# Altium schematic symbol library SCH.SCHLIB: 113 symbols
Pins are listed as number, name and electrical type; pins without a type are passive.

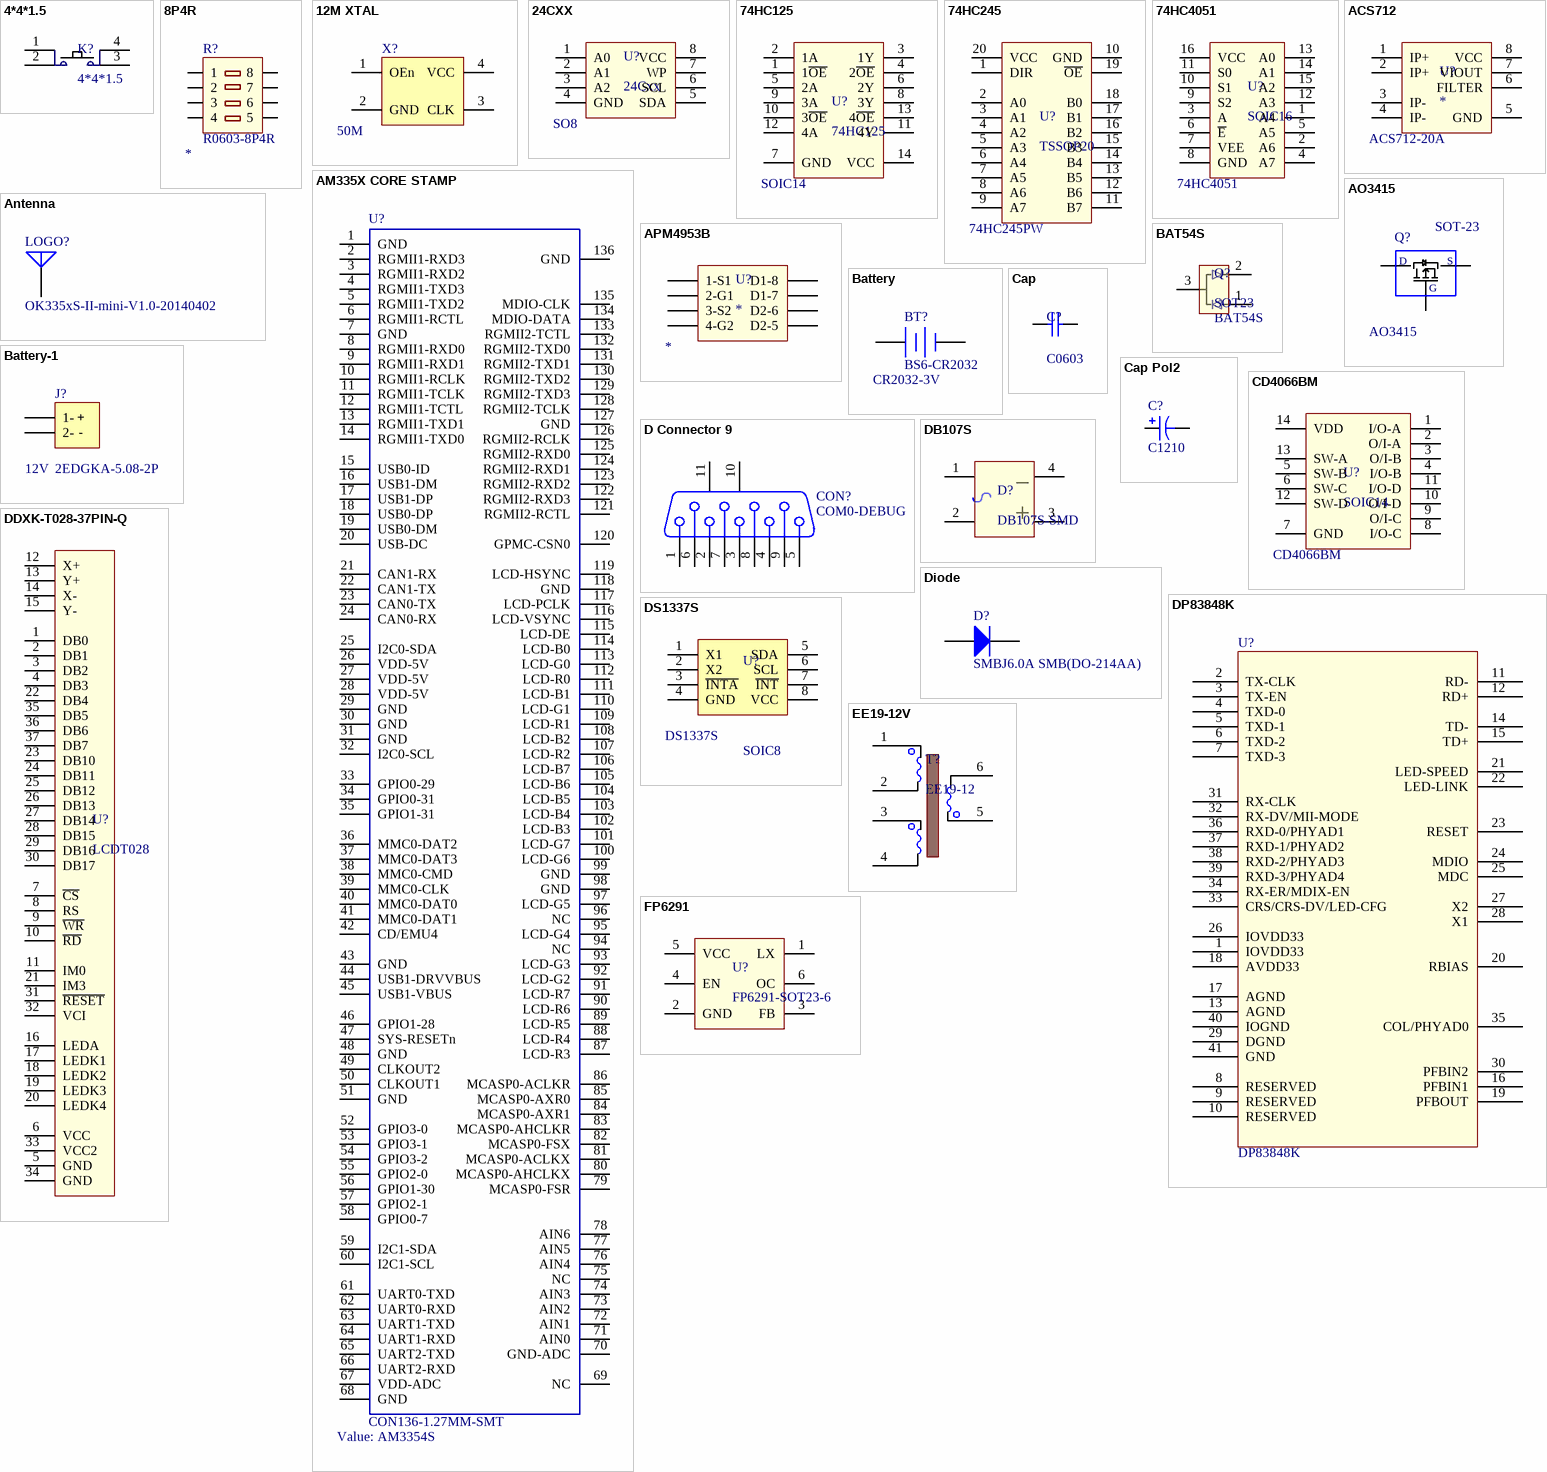
[diagram p0: symbols 4*4*1.5 to FP6291]

## 4*4*1.5
designator K?
footprint 4*4*1.5
pins: 1, 2, 3, 4

## 8P4R
designator R?, comment R0603-8P4R
Value: *
footprint R0603-8P4R
pins: 1, 2, 3, 4, 5, 6, 7, 8

## 12M XTAL
designator X?, comment 50M
footprint Y7050
pins: 1 OEn, 2 GND, 3 CLK, 4 VCC

## 24CXX
designator U?, comment 24Cxx  value SO8
footprint SOIC8 (SOIC, 8-Leads, Body 4.9x3.9mm, Pitch 1.27mm, IPC Medium Density)
pins: 1 A0, 2 A1, 3 A2, 4 GND, 5 SDA, 6 SCL, 7 WP, 8 VCC

## 74HC125
designator U?  value SOIC14
footprint SOIC14
pins: 1 1~{OE}, 2 1A, 3 1Y, 4 2~{OE}, 5 2A, 6 2Y, 7 GND, 8 3Y, 9 3A, 10 3~{OE}, 11 4Y, 12 4A, 13 4~{OE}, 14 VCC

## 74HC245
designator U?, comment TSSOP20  value 74HC245PW
footprint TSSOP20
pins: 1 DIR, 2 A0, 3 A1, 4 A2, 5 A3, 6 A4, 7 A5, 8 A6, 9 A7, 10 GND, 11 B7, 12 B6, 13 B5, 14 B4, 15 B3, 16 B2, 17 B1, 18 B0, 19 ~{OE}, 20 VCC

## 74HC4051
designator U?, comment SOIC16  value 74HC4051
footprint SO-G16
pins: 1 A4, 2 A6, 3 A, 4 A7, 5 A5, 6 ~{E}, 7 VEE, 8 GND, 9 S2, 10 S1, 11 S0, 12 A3, 13 A0, 14 A1, 15 A2, 16 VCC

## ACS712
designator U?  value ACS712-20A
footprint SOIC8_N (SOIC, 8-Leads, Body 4.9x3.9mm, Pitch 1.27mm, IPC Medium Density)
pins: 1 IP+, 2 IP+, 3 IP-, 4 IP-, 5 GND, 6 FILTER, 7 VIOUT, 8 VCC

## AM335X CORE STAMP
designator U?, comment CON136-1.27MM-SMT  value AM3354S
footprint FET335S_V1.1
pins: 1 GND, 2 RGMII1-RXD3, 3 RGMII1-RXD2, 4 RGMII1-TXD3, 5 RGMII1-TXD2, 6 RGMII1-RCTL, 7 GND, 8 RGMII1-RXD0, 9 RGMII1-RXD1, 10 RGMII1-RCLK, 11 RGMII1-TCLK, 12 RGMII1-TCTL, 13 RGMII1-TXD1, 14 RGMII1-TXD0, 15 USB0-ID, 16 USB1-DM, 17 USB1-DP, 18 USB0-DP, 19 USB0-DM, 20 USB-DC, 21 CAN1-RX, 22 CAN1-TX, 23 CAN0-TX, 24 CAN0-RX, 25 I2C0-SDA, 26 VDD-5V, 27 VDD-5V, 28 VDD-5V, 29 GND, 30 GND, 31 GND, 32 I2C0-SCL, 33 GPIO0-29, 34 GPIO0-31, 35 GPIO1-31, 36 MMC0-DAT2, 37 MMC0-DAT3, 38 MMC0-CMD, 39 MMC0-CLK, 40 MMC0-DAT0, 41 MMC0-DAT1, 42 CD/EMU4, 43 GND, 44 USB1-DRVVBUS, 45 USB1-VBUS, 46 GPIO1-28, 47 SYS-RESETn, 48 GND, 49 CLKOUT2, 50 CLKOUT1, 51 GND, 52 GPIO3-0, 53 GPIO3-1, 54 GPIO3-2, 55 GPIO2-0, 56 GPIO1-30, 57 GPIO2-1, 58 GPIO0-7, 59 I2C1-SDA, 60 I2C1-SCL, 61 UART0-TXD, 62 UART0-RXD, 63 UART1-TXD, 64 UART1-RXD, 65 UART2-TXD, 66 UART2-RXD, 67 VDD-ADC, 68 GND, 69 NC, 70 GND-ADC, 71 AIN0, 72 AIN1, 73 AIN2, 74 AIN3, 75 NC, 76 AIN4, 77 AIN5, 78 AIN6, 79 MCASP0-FSR, 80 MCASP0-AHCLKX, 81 MCASP0-ACLKX, 82 MCASP0-FSX, 83 MCASP0-AHCLKR, 84 MCASP0-AXR1, 85 MCASP0-AXR0, 86 MCASP0-ACLKR, 87 LCD-R3, 88 LCD-R4, 89 LCD-R5, 90 LCD-R6, 91 LCD-R7, 92 LCD-G2, 93 LCD-G3, 94 NC, 95 LCD-G4, 96 NC, 97 LCD-G5, 98 GND, 99 GND, 100 LCD-G6, 101 LCD-G7, 102 LCD-B3, 103 LCD-B4, 104 LCD-B5, 105 LCD-B6, 106 LCD-B7, 107 LCD-R2, 108 LCD-B2, 109 LCD-R1, 110 LCD-G1, 111 LCD-B1, 112 LCD-R0, 113 LCD-G0, 114 LCD-B0, 115 LCD-DE, 116 LCD-VSYNC, 117 LCD-PCLK, 118 GND, 119 LCD-HSYNC, 120 GPMC-CSN0, 121 RGMII2-RCTL, 122 RGMII2-RXD3, 123 RGMII2-RXD2, 124 RGMII2-RXD1, 125 RGMII2-RXD0, 126 RGMII2-RCLK, 127 GND, 128 RGMII2-TCLK, 129 RGMII2-TXD3, 130 RGMII2-TXD2, 131 RGMII2-TXD1, 132 RGMII2-TXD0, 133 RGMII2-TCTL, 134 MDIO-DATA, 135 MDIO-CLK, 136 GND

## Antenna
designator LOGO?, comment OK335xS-II-mini-V1.0-20140402
Generic Antenna; Published: 24-Mar-1999; LatestRevisionDate: 17-Jul-2002; LatestRevisionNote: Re-released for DXP Platform.; PackageReference: PIN1; Publisher: Altium Limited
footprint LOGO
footprint LOGO
pins: 1 A

## AO3415
designator Q?, comment SOT-23  value AO3415
footprint SOT23
pins: 1 G, 2 S, 3 D

## APM4953B
designator U?
Value: *
footprint SOIC8_N (SOIC, 8-Leads, Body 4.9x3.9mm, Pitch 1.27mm, IPC Medium Density)
pins: 1 1-S1, 2 2-G1, 3 3-S2, 4 4-G2, 5 D2-5, 6 D2-6, 7 D1-7, 8 D1-8

## BAT54S
designator Q?, comment SOT23  value BAT54S
footprint SOT23
pins: 1, 2, 3

## Battery
designator BT?, comment BS6-CR2032  value CR2032-3V
Multicell Battery; Published: 24-Mar-1999; LatestRevisionDate: 17-Jul-2002; LatestRevisionNote: Re-released for DXP Platform.; PackageReference: BAT-2; Publisher: Altium Limited
footprint BS6-CR2032
pins: 1 +, 2 -

## Battery-1
designator J?, comment 2EDGKA-5.08-2P  value 12V
Header, 2-Pin; LatestRevisionDate: 17-Jul-2002; LatestRevisionNote: Re-released for DXP Platform.; Publisher: Altium Limited
signal-integrity model Connector
footprint 2EDGKA-5.08-2P
pins: 1 1-＋, 2 2-－

## Cap
designator C?, comment C0603
Capacitor; Published: 8-Jun-2000; LatestRevisionDate: 17-Jul-2002; LatestRevisionNote: Re-released for DXP Platform.; PackageReference: RAD-0.3; Publisher: Altium Limited
footprint RAD-0.3 (Capacitor; 2 Leads)
footprint VP32-3.2 (Capacitor, Ceramic, Thru-Hole, Dipped Radial; Body 5.1 x 3.2 mm (WxT) Pin Spacing 2.54 mm (typ))
footprint VP45-3.2 (Capacitor, Ceramic, Thru-Hole, Dipped Radial; Body 7.8 x 3.2 mm (WxT) Pin Spacing 5.08 mm (typ))
simulation model CAP (Capacitor)
signal-integrity model Cap
footprint C0603_M1608 (Chip Capacitor, 2-Leads, Body 1.6x0.8mm, IPC Medium Density)
pins: 1, 2

## Cap Pol2
designator C?, comment C1210
Polarized Capacitor (Axial); Published: 8-Jun-2000; LatestRevisionDate: 17-Jul-2002; LatestRevisionNote: Re-released for DXP Platform.; PackageReference: POLAR0.8; Publisher: Altium Limited
footprint C1210_M3225
footprint CAPPA14.05-10.5x6.3 (Capacitor, Axial, Polarised; Body 10.5 x 6.3 mm (LxDia. max), Lead Dia. 0.6 mm (typ))
footprint CAPPA23.6-18.5x8.5 (Capacitor, Axial, Polarised; Body 18.5 x 8.5 mm (LxDia. max), Lead Dia. 0.8 mm (typ))
footprint CAPPA31.6-26.5x12.5 (Capacitor, Axial, Polarised; Body 26.5 x 12.5 mm (LxDia. max), Lead Dia. 0.8 mm (typ))
footprint CAPPA35.6-30.5x18.5 (Capacitor, Axial, Polarised; Body 30.5 x 18.5 mm (LxDia. max), Lead Dia. 0.8 mm (typ))
footprint CAPPA46.1-41x21.5 (Capacitor, Axial, Polarised; Body 41 x 21.5 mm (LxDia. max), Lead Dia. 0.8 mm (typ))
simulation model CAP (Capacitor)
signal-integrity model Cap Pol
pins: 1, 2
1 alternate drawing of the same symbol

## CD4066BM
designator U?, comment SOIC14  value CD4066BM
footprint SOIC14
pins: 1 I/O-A, 2 O/I-A, 3 O/I-B, 4 I/O-B, 5 SW-B, 6 SW-C, 7 GND, 8 I/O-C, 9 O/I-C, 10 O/I-D, 11 I/O-D, 12 SW-D, 13 SW-A, 14 VDD

## D Connector 9
designator CON?, comment COM0-DEBUG
Receptacle Assembly, 9 Position, Right Angle; PackageDocument: O; Positions: 9; Published: 15-Jun-2001; LatestRevisionDate: 17-Jul-2002; LatestRevisionNote: Re-released for DXP Platform.; DatasheetDocument: 1-Sep-1999; PackageReference: 788750; Publisher: Altium Limited; Orientation: Right Angle; Gender: Receptacle
footprint DSUB1.385-2H9-M (Connector; D Subminiature; 9 Position; Right Angle; Pitch 1.385 mm)
signal-integrity model Connector
pins: 1, 2, 3, 4, 5, 6, 7, 8, 9, 10 MH1, 11 MH2

## DB107S
designator D?, comment DB107S-SMD
footprint DB107-S
pins: 1, 2, 3, 4

## DDXK-T028-37PIN-Q
designator U?, comment LCDT028
pins: 1 DB0, 2 DB1, 3 DB2, 4 DB3, 5 GND, 6 VCC, 7 ~{CS}, 8 RS, 9 ~{WR}, 10 ~{RD}, 11 IM0, 12 X+, 13 Y+, 14 X-, 15 Y-, 16 LEDA, 17 LEDK1, 18 LEDK2, 19 LEDK3, 20 LEDK4, 21 IM3, 22 DB4, 23 DB10, 24 DB11, 25 DB12, 26 DB13, 27 DB14, 28 DB15, 29 DB16, 30 DB17, 31 ~{RESET}, 32 VCI, 33 VCC2, 34 GND, 35 DB5, 36 DB6, 37 DB7

## Diode
designator D?, comment SMBJ6.0A SMB(DO-214AA)
Default Diode; Published: 8-Jun-2000; LatestRevisionDate: 17-Jul-2002; LatestRevisionNote: Re-released for DXP Platform.; PackageDocument: Sep-1996; PackageReference: SMC; Publisher: Altium Limited; Code_JEDEC: DO-214-AB
footprint DIODE-SK34A
simulation model DIODE (Diode)
signal-integrity model Diode
pins: 1 A, 2 K

## DP83848K
designator U?
pins: 1 IOVDD33, 2 TX-CLK, 3 TX-EN, 4 TXD-0, 5 TXD-1, 6 TXD-2, 7 TXD-3, 8 RESERVED, 9 RESERVED, 10 RESERVED, 11 RD-, 12 RD+, 13 AGND, 14 TD-, 15 TD+, 16 PFBIN1, 17 AGND, 18 AVDD33, 19 PFBOUT, 20 RBIAS, 21 LED-SPEED, 22 LED-LINK, 23 RESET, 24 MDIO, 25 MDC, 26 IOVDD33, 27 X2, 28 X1, 29 DGND, 30 PFBIN2, 31 RX-CLK, 32 RX-DV/MII-MODE, 33 CRS/CRS-DV/LED-CFG, 34 RX-ER/MDIX-EN, 35 COL/PHYAD0, 36 RXD-0/PHYAD1, 37 RXD-1/PHYAD2, 38 RXD-2/PHYAD3, 39 RXD-3/PHYAD4, 40 IOGND, 41 GND

## DS1337S
designator U?, comment SOIC8  value DS1337S
Header, 4-Pin, Dual row; LatestRevisionDate: 17-Jul-2002; LatestRevisionNote: Re-released for DXP Platform.; Publisher: Altium Limited
footprint SOIC8_N (SOIC, 8-Leads, Body 4.9x3.9mm, Pitch 1.27mm, IPC Medium Density)
signal-integrity model Connector
footprint SOIC-8N
pins: 1 X1, 2 X2, 3 ~{INTA}, 4 GND, 5 SDA, 6 SCL, 7 ~{INT}, 8 VCC

## EE19-12V
designator T?, comment EE19-12
footprint 变压器-6S12-W
pins: 1, 2, 3, 4, 5, 6

## FP6291
designator U?, comment FP6291-SOT23-6
footprint SOT26
pins: 1 LX, 2 GND, 3 FB, 4 EN, 5 VCC, 6 OC

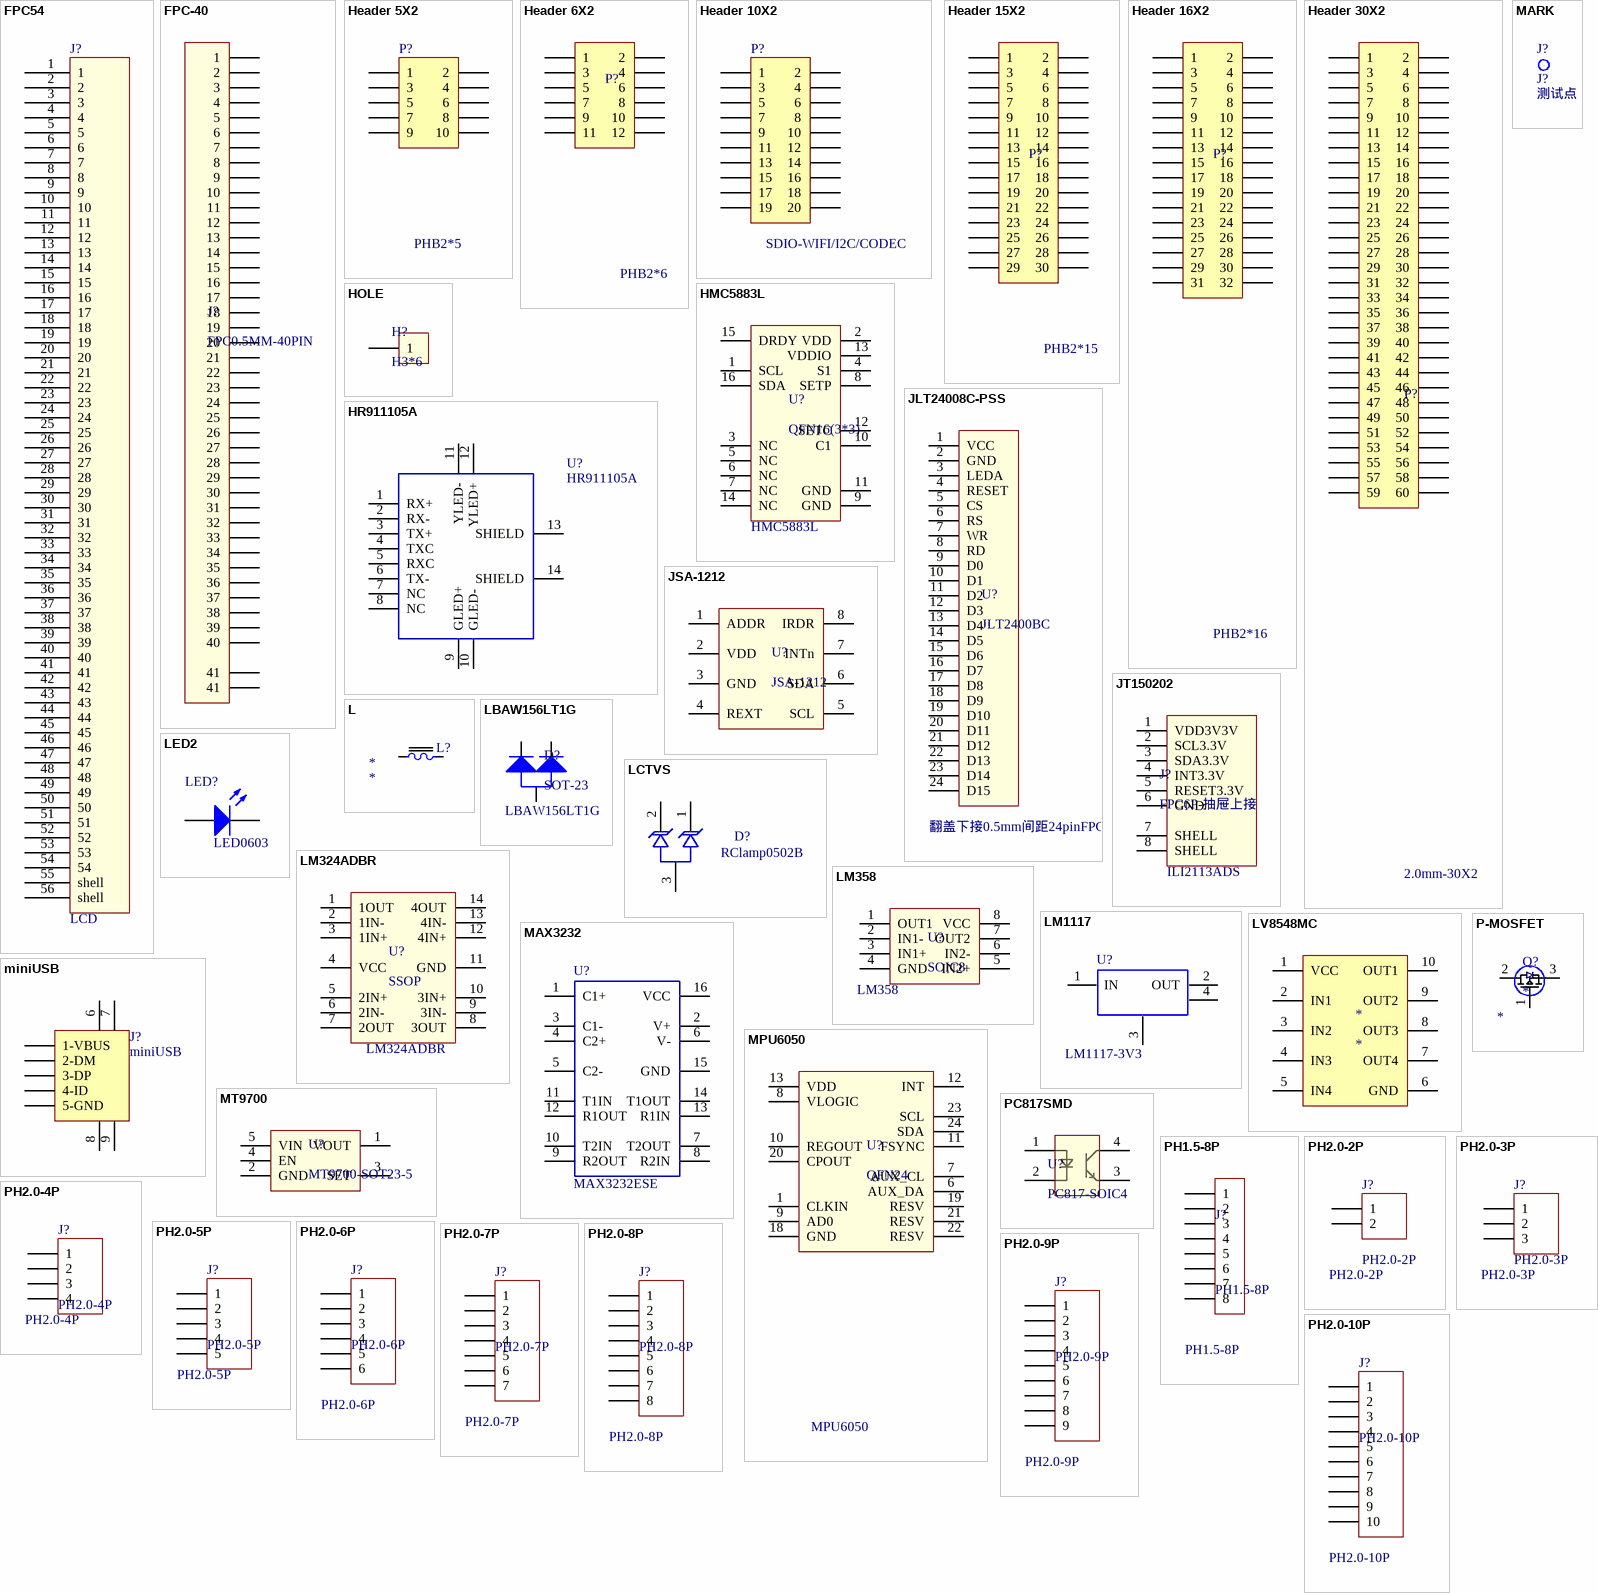
[diagram p1: symbols FPC54 to PH2.0-10P]

## FPC54
designator J?, comment LCD
footprint FPC54
pins: 1, 2, 3, 4, 5, 6, 7, 8, 9, 10, 11, 12, 13, 14, 15, 16, 17, 18, 19, 20, 21, 22, 23, 24, 25, 26, 27, 28, 29, 30, 31, 32, 33, 34, 35, 36, 37, 38, 39, 40, 41, 42, 43, 44, 45, 46, 47, 48, 49, 50, 51, 52, 53, 54, 55 shell, 56 shell

## FPC-40
designator J?, comment FPC0.5MM-40PIN
footprint FPC40_A
pins: 1, 2, 3, 4, 5, 6, 7, 8, 9, 10, 11, 12, 13, 14, 15, 16, 17, 18, 19, 20, 21, 22, 23, 24, 25, 26, 27, 28, 29, 30, 31, 32, 33, 34, 35, 36, 37, 38, 39, 40, 41, 41

## Header 5X2
designator P?, comment PHB2*5
Header, 10-Pin, Dual row; LatestRevisionDate: 17-Jul-2002; LatestRevisionNote: Re-released for DXP Platform.; Publisher: Altium Limited
footprint HDR2X10 (Connector; Header; 10x2 Position)
signal-integrity model Connector
footprint PHB2*5 (Footprint not found)
pins: 1, 2, 3, 4, 5, 6, 7, 8, 9, 10

## Header 6X2
designator P?, comment PHB2*6
Header, 10-Pin, Dual row; LatestRevisionDate: 17-Jul-2002; LatestRevisionNote: Re-released for DXP Platform.; Publisher: Altium Limited
footprint HDR2X10 (Connector; Header; 10x2 Position)
signal-integrity model Connector
footprint PHB2*6 (Footprint not found)
pins: 1, 2, 3, 4, 5, 6, 7, 8, 9, 10, 11, 12

## Header 10X2
designator P?, comment SDIO-WIFI/I2C/CODEC
Header, 10-Pin, Dual row; LatestRevisionDate: 17-Jul-2002; LatestRevisionNote: Re-released for DXP Platform.; Publisher: Altium Limited
footprint HDR2X10 (Connector; Header; 10x2 Position)
signal-integrity model Connector
footprint IDC20S
pins: 1, 2, 3, 4, 5, 6, 7, 8, 9, 10, 11, 12, 13, 14, 15, 16, 17, 18, 19, 20

## Header 15X2
designator P?, comment PHB2*15
Header, 10-Pin, Dual row; LatestRevisionDate: 17-Jul-2002; LatestRevisionNote: Re-released for DXP Platform.; Publisher: Altium Limited
footprint HDR2X10 (Connector; Header; 10x2 Position)
signal-integrity model Connector
footprint PHB2*15 (Footprint not found)
pins: 1, 2, 3, 4, 5, 6, 7, 8, 9, 10, 11, 12, 13, 14, 15, 16, 17, 18, 19, 20, 21, 22, 23, 24, 25, 26, 27, 28, 29, 30

## Header 16X2
designator P?, comment PHB2*16
Header, 30-Pin, Dual row; LatestRevisionDate: 17-Jul-2002; LatestRevisionNote: Re-released for DXP Platform.; Publisher: Altium Limited
footprint PHB2*16 (Footprint not found)
signal-integrity model Connector
pins: 1, 2, 3, 4, 5, 6, 7, 8, 9, 10, 11, 12, 13, 14, 15, 16, 17, 18, 19, 20, 21, 22, 23, 24, 25, 26, 27, 28, 29, 30, 31, 32

## Header 30X2
designator P?, comment 2.0mm-30X2
Header, 30-Pin, Dual row; LatestRevisionDate: 17-Jul-2002; LatestRevisionNote: Re-released for DXP Platform.; Publisher: Altium Limited
footprint IDC2.0mm-30X2
signal-integrity model Connector
pins: 1, 2, 3, 4, 5, 6, 7, 8, 9, 10, 11, 12, 13, 14, 15, 16, 17, 18, 19, 20, 21, 22, 23, 24, 25, 26, 27, 28, 29, 30, 31, 32, 33, 34, 35, 36, 37, 38, 39, 40, 41, 42, 43, 44, 45, 46, 47, 48, 49, 50, 51, 52, 53, 54, 55, 56, 57, 58, 59, 60

## HMC5883L
designator U?, comment QFN16(3*3)  value HMC5883L
footprint QFN16(3*3) (Footprint not found)
pins: 1 SCL, 2 VDD, 3 NC, 4 S1, 5 NC, 6 NC, 7 NC, 8 SETP, 9 GND, 10 C1, 11 GND, 12 SETC, 13 VDDIO, 14 NC, 15 DRDY, 16 SDA

## HOLE
designator H?, comment H3*6
footprint H3-6
pins: 1

## HR911105A
designator U?
footprint RJ-45A12
pins: 1 RX+, 2 RX-, 3 TX+, 4 TXC, 5 RXC, 6 TX-, 7 NC, 8 NC, 9 GLED+, 10 GLED-, 11 YLED-, 12 YLED+, 13 SHIELD, 14 SHIELD

## JLT24008C-PSS
designator U?, comment JLT2400BC  value 翻盖下接0.5mm间距24pinFPC座
footprint FPC24-A-0.5MM
pins: 1 VCC, 2 GND, 3 LEDA, 4 RESET, 5 CS, 6 RS, 7 WR, 8 RD, 9 D0, 10 D1, 11 D2, 12 D3, 13 D4, 14 D5, 15 D6, 16 D7, 17 D8, 18 D9, 19 D10, 20 D11, 21 D12, 22 D13, 23 D14, 24 D15

## JSA-1212
designator U?
footprint QFN8-JSA-1212 (Footprint not found)
pins: 1 ADDR, 2 VDD, 3 GND, 4 REXT, 5 SCL, 6 SDA, 7 INTn, 8 IRDR

## JT150202
designator J?, comment FPC6P-抽屉上接  value ILI2113ADS
footprint FPC6PIN-1MM
pins: 1 VDD3V3V, 2 SCL3.3V, 3 SDA3.3V, 4 INT3.3V, 5 RESET3.3V, 6 GND, 7 SHELL, 8 SHELL

## L
designator L?
BEADS; Value: *
footprint Model Name (Footprint not found)
pins: 1, 2

## LBAW156LT1G
designator D?, comment SOT-23  value LBAW156LT1G
footprint SOT23
pins: 1 K, 2 K, 3 A

## LCTVS
designator D?, comment value RClamp0502B  (hidden comment: SOT-523)
footprint SOT-523 (SOT23, 3-Leads, Body 1.7x1.8mm (max), Pitch 0.50mm, IPC Medium Density)
pins: 1, 2, 3

## LED2
designator LED?, comment LED0603
Typical RED, GREEN, YELLOW, AMBER GaAs LED; Published: 8-Jun-2000; LatestRevisionDate: 17-Jul-2002; LatestRevisionNote: Re-released for DXP Platform.; PackageDocument: Feb-2002; PackageReference: 3.2X1.6X1.1; Publisher: Altium Limited
footprint LED0603_M1608 (Molded Diode, 2-Leads, Body 1.9x0.8mm, IPC Medium Density)
simulation model LED2 (Diode)
pins: 1 A, 2 K

## LM324ADBR
designator U?, comment SSOP  value LM324ADBR
footprint TSSOP14
pins: 1 1OUT, 2 1IN-, 3 1IN+, 4 VCC, 5 2IN+, 6 2IN-, 7 2OUT, 8 3OUT, 9 3IN-, 10 3IN+, 11 GND, 12 4IN+, 13 4IN-, 14 4OUT

## LM358
designator U?, comment SOIC8  value LM358
footprint SOIC8_N (SOIC, 8-Leads, Body 4.9x3.9mm, Pitch 1.27mm, IPC Medium Density)
pins: 1 OUT1, 2 IN1-, 3 IN1+, 4 GND, 5 IN2+, 6 IN2-, 7 OUT2, 8 VCC

## LM1117
designator U?, comment value LM1117-3V3  (hidden comment: SOT223)
footprint LM1117 (SOT223)
pins: 1 IN, 2 OUT, 3 GND, 4

## LV8548MC
designator *
pins: 1 VCC, 2 IN1, 3 IN2, 4 IN3, 5 IN4, 6 GND, 7 OUT4, 8 OUT3, 9 OUT2, 10 OUT1

## MARK
designator J?, comment J?  value 测试点
footprint mark-1*1 (Footprint not found)
pins: 1

## MAX3232
designator U?, comment MAX3232ESE
footprint SOIC-16N
pins: 1 C1+, 2 V+, 3 C1-, 4 C2+, 5 C2-, 6 V-, 7 T2OUT, 8 R2IN, 9 R2OUT, 10 T2IN, 11 T1IN, 12 R1OUT, 13 R1IN, 14 T1OUT, 15 GND, 16 VCC

## miniUSB
designator J?
footprint MINIUSB
pins: 1 1-VBUS, 2 2-DM, 3 3-DP, 4 4-ID, 5 5-GND, 6, 7, 8, 9

## MPU6050
designator U?, comment QFN24  value MPU6050
footprint QFN24(MPU6050)
pins: 1 CLKIN, 6 AUX_DA, 7 AUX_CL, 8 VLOGIC, 9 AD0, 10 REGOUT, 11 FSYNC, 12 INT, 13 VDD, 18 GND, 19 RESV, 20 CPOUT, 21 RESV, 22 RESV, 23 SCL, 24 SDA

## MT9700
designator U?, comment MT9700-SOT23-5
footprint SOT23-5 (SOT23, 5-Leads, Body 3.1x3.0mm (max), Pitch 0.95mm, IPC Medium Density)
pins: 1 VOUT, 2 GND, 3 SET, 4 EN, 5 VIN

## P-MOSFET
designator Q?
Value: *
footprint TO-263
pins: 1, 2, 3

## PC817SMD
designator U?, comment PC817-SOIC4
footprint SOIC4
pins: 1, 2, 3, 4

## PH1.5-8P
designator J?
Header, 2-Pin; LatestRevisionDate: 17-Jul-2002; LatestRevisionNote: Re-released for DXP Platform.; Publisher: Altium Limited; Value: PH1.5-8P
signal-integrity model Connector
footprint PH1.5-8P
pins: 1, 2, 3, 4, 5, 6, 7, 8

## PH2.0-2P
designator J?
Header, 2-Pin; LatestRevisionDate: 17-Jul-2002; LatestRevisionNote: Re-released for DXP Platform.; Publisher: Altium Limited; Value: PH2.0-2P
signal-integrity model Connector
footprint PH2.0-2P (Footprint not found)
pins: 1, 2

## PH2.0-3P
designator J?
Header, 3-Pin; LatestRevisionDate: 17-Jul-2002; LatestRevisionNote: Re-released for DXP Platform.; Publisher: Altium Limited; Value: PH2.0-3P
signal-integrity model Connector
footprint PH2.0-3P (Footprint not found)
pins: 1, 2, 3

## PH2.0-4P
designator J?
Header, 4-Pin; LatestRevisionDate: 17-Jul-2002; LatestRevisionNote: Re-released for DXP Platform.; Publisher: Altium Limited; Value: PH2.0-4P
signal-integrity model Connector
footprint PH2.0-4P (Footprint not found)
pins: 1, 2, 3, 4

## PH2.0-5P
designator J?
Header, 5-Pin; LatestRevisionDate: 17-Jul-2002; LatestRevisionNote: Re-released for DXP Platform.; Publisher: Altium Limited; Value: PH2.0-5P
signal-integrity model Connector
footprint PH2.0-5P
pins: 1, 2, 3, 4, 5

## PH2.0-6P
designator J?
Header, 6-Pin; LatestRevisionDate: 17-Jul-2002; LatestRevisionNote: Re-released for DXP Platform.; Publisher: Altium Limited; Value: PH2.0-6P
signal-integrity model Connector
footprint PH2.0-6P (Footprint not found)
pins: 1, 2, 3, 4, 5, 6

## PH2.0-7P
designator J?
Header, 7-Pin; LatestRevisionDate: 17-Jul-2002; LatestRevisionNote: Re-released for DXP Platform.; Publisher: Altium Limited; Value: PH2.0-7P
signal-integrity model Connector
footprint PH2.0-7P
pins: 1, 2, 3, 4, 5, 6, 7

## PH2.0-8P
designator J?
Header, 6-Pin; LatestRevisionDate: 17-Jul-2002; LatestRevisionNote: Re-released for DXP Platform.; Publisher: Altium Limited; Value: PH2.0-8P
signal-integrity model Connector
footprint PH2.0-8P
pins: 1, 2, 3, 4, 5, 6, 7, 8

## PH2.0-9P
designator J?
Header, 9-Pin; LatestRevisionDate: 17-Jul-2002; LatestRevisionNote: Re-released for DXP Platform.; Publisher: Altium Limited; Value: PH2.0-9P
signal-integrity model Connector
footprint PH2.0-9P
pins: 1, 2, 3, 4, 5, 6, 7, 8, 9

## PH2.0-10P
designator J?
Header, 6-Pin; LatestRevisionDate: 17-Jul-2002; LatestRevisionNote: Re-released for DXP Platform.; Publisher: Altium Limited; Value: PH2.0-10P
signal-integrity model Connector
footprint PH2.0-10P
pins: 1, 2, 3, 4, 5, 6, 7, 8, 9, 10

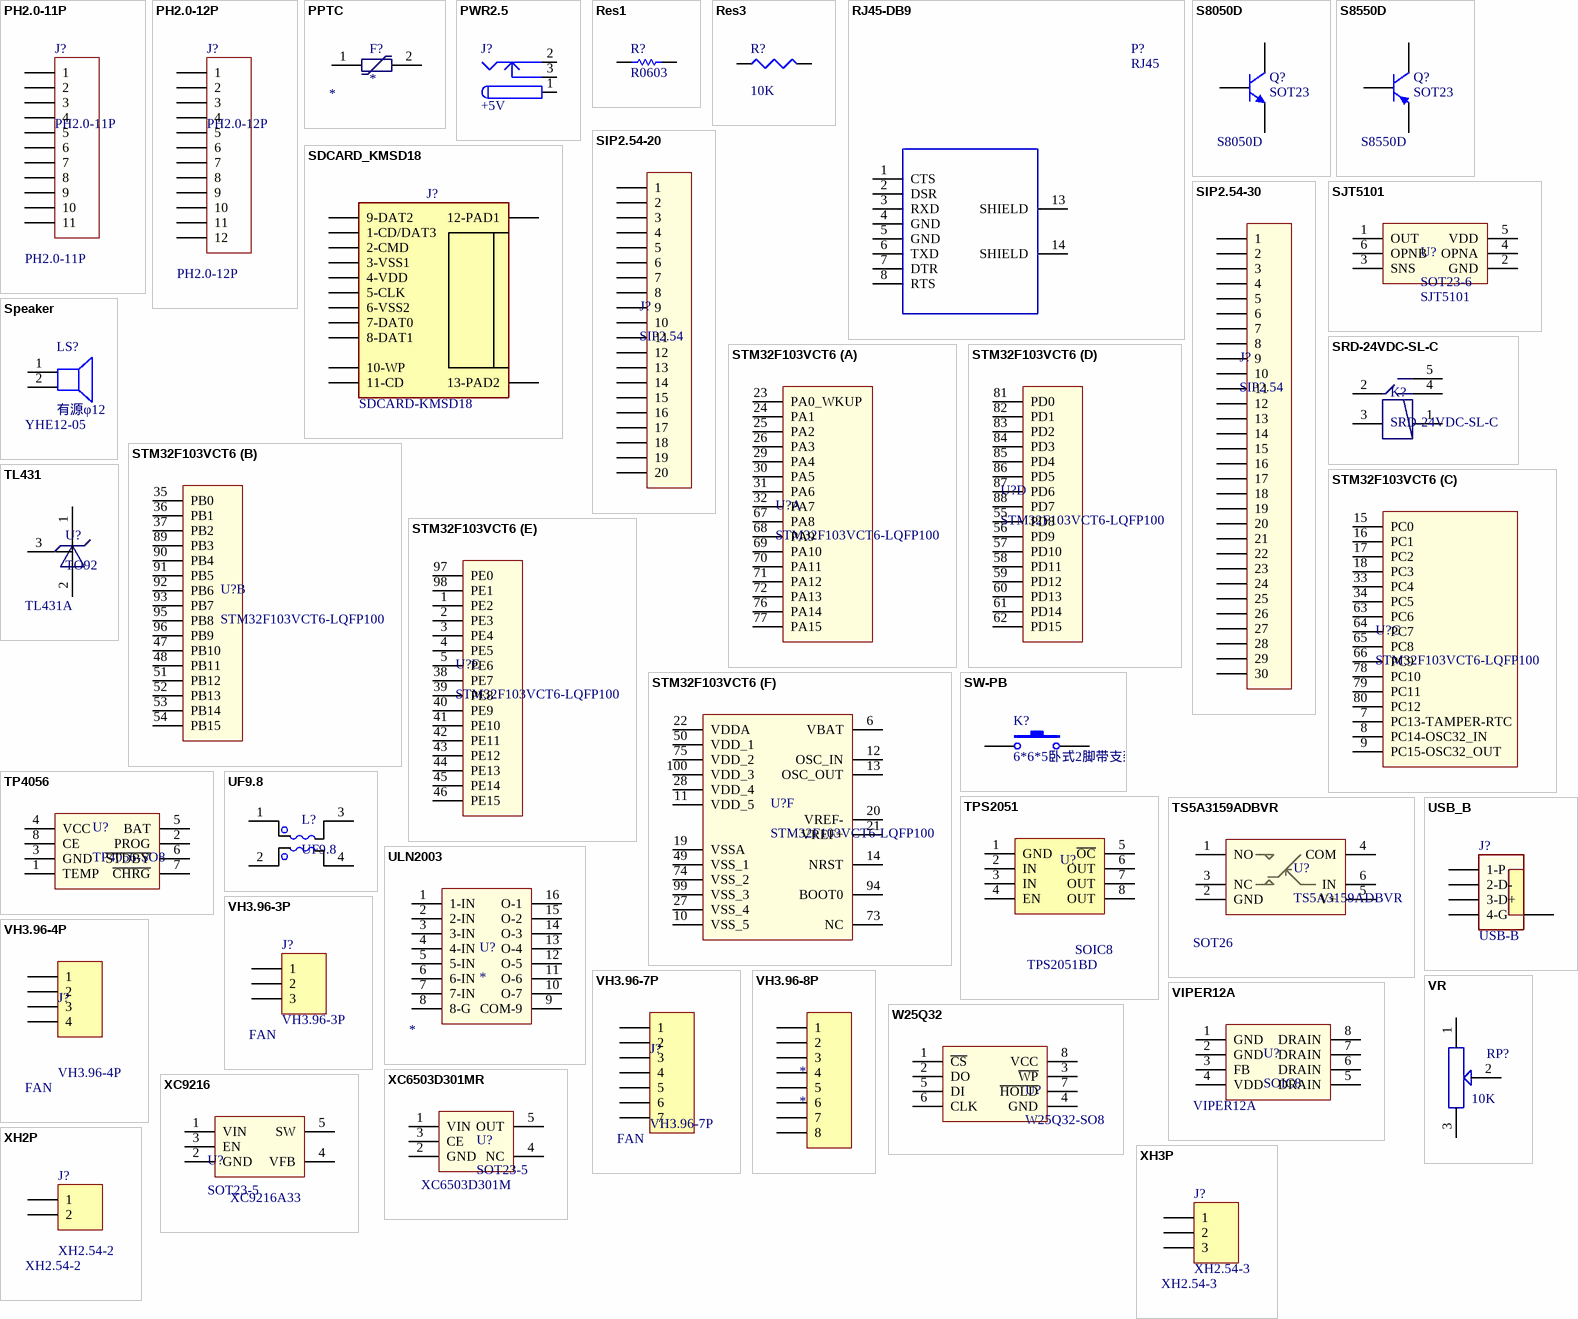
[diagram p2: symbols PH2.0-11P to XH3P]

## PH2.0-11P
designator J?
Header, 11-Pin; LatestRevisionDate: 17-Jul-2002; LatestRevisionNote: Re-released for DXP Platform.; Publisher: Altium Limited; Value: PH2.0-11P
signal-integrity model Connector
footprint PH2.0-11P
pins: 1, 2, 3, 4, 5, 6, 7, 8, 9, 10, 11

## PH2.0-12P
designator J?
Header, 12-Pin; LatestRevisionDate: 17-Jul-2002; LatestRevisionNote: Re-released for DXP Platform.; Publisher: Altium Limited; Value: PH2.0-12P
signal-integrity model Connector
footprint PH2.0-12P
pins: 1, 2, 3, 4, 5, 6, 7, 8, 9, 10, 11, 12

## PPTC
designator F?
Value: *
footprint FRG600-16
pins: 1, 2

## PWR2.5
designator J?, comment +5V
Low Voltage Power Supply Connector; Published: 17-Dec-2003; DatasheetDocument: 09-May-2002; Publisher: Altium Limited; ComponentLink1Description: Manufacturer Link; ComponentLink1URL: http://domino.kycon.com/internet/Products.html
footprint JACK-2.5MM_B
signal-integrity model Connector
pins: 1 (power), 2 (power), 3 (power)

## Res1
designator R?, comment R0603
Resistor; Published: 8-Jun-2000; LatestRevisionDate: 17-Jul-2002; LatestRevisionNote: Re-released for DXP Platform.; PackageReference: AXIAL-0.3; Publisher: Altium Limited
footprint AXIAL-0.3 (Resistor; 2 Leads)
simulation model RESISTOR (Resistor)
signal-integrity model Res
footprint R0603_M1608 (Chip Capacitor, 2-Leads, Body 1.6x0.8mm, IPC Medium Density)
pins: 1, 2

## Res3
designator R?  value 10K
Resistor; Published: 8-Jun-2000; LatestRevisionDate: 29-May-2009; LatestRevisionNote: IPC-7351 Footprint Added.; PackageReference: J1-0603; Publisher: Altium Limited; PackageDescription: Chip Resistor
footprint 12Z-2010 (Chip Resistor, Body 5.0x2.5mm, IPC High Density)
footprint RESC6332 (Chip Resistor, Body 6.3x3.2mm, IPC High Density)
simulation model RESISTOR (Resistor)
signal-integrity model Res
pins: 1, 2

## RJ45-DB9
designator P?, comment RJ45
footprint RJ-45A12-notT
pins: 1 CTS, 2 DSR, 3 RXD, 4 GND, 5 GND, 6 TXD, 7 DTR, 8 RTS, 13 SHIELD, 14 SHIELD

## S8050D
designator Q?, comment SOT23  value S8050D
footprint SOT23
pins: 1 B, 2 E, 3 C

## S8550D
designator Q?, comment SOT23  value S8550D
footprint SOT23
pins: 1 B, 2 E, 3 C

## SDCARD_KMSD18
designator J?, comment SDCARD-KMSD18
footprint TF-CARD
pins: 1 1-CD/DAT3, 2 2-CMD, 3 3-VSS1, 4 4-VDD, 5 5-CLK, 6 6-VSS2, 7 7-DAT0, 8 8-DAT1, 9 9-DAT2, 10 10-WP, 11 11-CD, 12 12-PAD1, 13 13-PAD2

## SIP2.54-20
designator J?, comment SIP2.54
footprint SIP2.54-20
pins: 1, 2, 3, 4, 5, 6, 7, 8, 9, 10, 11, 12, 13, 14, 15, 16, 17, 18, 19, 20

## SIP2.54-30
designator J?, comment SIP2.54
footprint SIP2.54-30
pins: 1, 2, 3, 4, 5, 6, 7, 8, 9, 10, 11, 12, 13, 14, 15, 16, 17, 18, 19, 20, 21, 22, 23, 24, 25, 26, 27, 28, 29, 30

## SJT5101
designator U?, comment SOT23-6  value SJT5101
footprint SOT26
pins: 1 OUT, 2 GND, 3 SNS, 4 OPNA, 5 VDD, 6 OPNB

## Speaker
designator LS?, comment 有源φ12  value YHE12-05
Loudspeaker; Published: 24-Mar-1999; LatestRevisionDate: 17-Jul-2002; LatestRevisionNote: Re-released for DXP Platform.; PackageReference: PIN2; Publisher: Altium Limited
footprint BELL
pins: 1, 2

## SRD-24VDC-SL-C
designator K?
footprint SRD-24VDC-SL-C
pins: 1, 2, 3, 4, 5

## STM32F103VCT6
designator U?, comment STM32F103VCT6-LQFP100
footprint LQFP100-14X14
part A pins: 23 PA0_WKUP, 24 PA1, 25 PA2, 26 PA3, 29 PA4, 30 PA5, 31 PA6, 32 PA7, 67 PA8, 68 PA9, 69 PA10, 70 PA11, 71 PA12, 72 PA13, 76 PA14, 77 PA15
part B pins: 35 PB0, 36 PB1, 37 PB2, 47 PB10, 48 PB11, 51 PB12, 52 PB13, 53 PB14, 54 PB15, 89 PB3, 90 PB4, 91 PB5, 92 PB6, 93 PB7, 95 PB8, 96 PB9
part C pins: 7 PC13-TAMPER-RTC, 8 PC14-OSC32_IN, 9 PC15-OSC32_OUT, 15 PC0, 16 PC1, 17 PC2, 18 PC3, 33 PC4, 34 PC5, 63 PC6, 64 PC7, 65 PC8, 66 PC9, 78 PC10, 79 PC11, 80 PC12
part D pins: 55 PD8, 56 PD9, 57 PD10, 58 PD11, 59 PD12, 60 PD13, 61 PD14, 62 PD15, 81 PD0, 82 PD1, 83 PD2, 84 PD3, 85 PD4, 86 PD5, 87 PD6, 88 PD7
part E pins: 1 PE2, 2 PE3, 3 PE4, 4 PE5, 5 PE6, 38 PE7, 39 PE8, 40 PE9, 41 PE10, 42 PE11, 43 PE12, 44 PE13, 45 PE14, 46 PE15, 97 PE0, 98 PE1
part F pins: 6 VBAT, 10 VSS_5, 11 VDD_5, 12 OSC_IN, 13 OSC_OUT, 14 NRST, 19 VSSA, 20 VREF-, 21 VREF+, 22 VDDA, 27 VSS_4, 28 VDD_4, 49 VSS_1, 50 VDD_1, 73 NC, 74 VSS_2, 75 VDD_2, 94 BOOT0, 99 VSS_3, 100 VDD_3

## SW-PB
designator K?, comment 6*6*5卧式2脚带支架
Switch; Published: 24-Mar-1999; LatestRevisionDate: 17-Jul-2002; LatestRevisionNote: Re-released for DXP Platform.; PackageReference: SPST-2; Publisher: Altium Limited
footprint SPST-2 (Switch; 2 Leads)
footprint SW-01
pins: 1, 2

## TL431
designator U?, comment TO92  value TL431A
footprint TO92-A
pins: 1, 2, 3

## TP4056
designator U?, comment TP4056-SO8
footprint SOIC8 (SOIC, 8-Leads, Body 4.9x3.9mm, Pitch 1.27mm, IPC Medium Density)
pins: 1 TEMP, 2 PROG, 3 GND, 4 VCC, 5 BAT, 6 ~{STDBY}, 7 ~{CHRG}, 8 CE

## TPS2051
designator U?, comment SOIC8  value TPS2051BD
TPS2051; LatestRevisionDate: 17-Jul-2002; LatestRevisionNote: Re-released for DXP Platform.; Publisher: Altium Limited
footprint SOIC8_N (SOIC, 8-Leads, Body 4.9x3.9mm, Pitch 1.27mm, IPC Medium Density)
signal-integrity model Connector
pins: 1 GND, 2 IN, 3 IN, 4 EN, 5 ~{OC}, 6 OUT, 7 OUT, 8 OUT

## TS5A3159ADBVR
designator U?  value SOT26
footprint SOT26
pins: 1 NO, 2 GND, 3 NC, 4 COM, 5 V+, 6 IN

## UF9.8
designator L?
footprint 电感-共模电感UF9.8 (Footprint not found)
pins: 1, 2, 3, 4

## ULN2003
designator U?
Value: *
footprint SO-G16
pins: 1 1-IN, 2 2-IN, 3 3-IN, 4 4-IN, 5 5-IN, 6 6-IN, 7 7-IN, 8 8-G, 9 COM-9, 10 O-7, 11 O-6, 12 O-5, 13 O-4, 14 O-3, 15 O-2, 16 O-1

## USB_B
designator J?, comment USB-B
footprint USB-C
pins: 0, 1 1-P, 2 2-D-, 3 3-D+, 4 4-G

## VH3.96-3P
designator J?  value FAN
Header, 3-Pin; LatestRevisionDate: 17-Jul-2002; LatestRevisionNote: Re-released for DXP Platform.; Publisher: Altium Limited
signal-integrity model Connector
footprint VH3.96-3P
pins: 1, 2, 3

## VH3.96-4P
designator J?  value FAN
Header, 3-Pin; LatestRevisionDate: 17-Jul-2002; LatestRevisionNote: Re-released for DXP Platform.; Publisher: Altium Limited
signal-integrity model Connector
footprint VH3.96-4P
pins: 1, 2, 3, 4

## VH3.96-7P
designator J?  value FAN
Header, 3-Pin; LatestRevisionDate: 17-Jul-2002; LatestRevisionNote: Re-released for DXP Platform.; Publisher: Altium Limited
signal-integrity model Connector
footprint VH3.96-7P
pins: 1, 2, 3, 4, 5, 6, 7

## VH3.96-8P
designator *
footprint VH3.96-8P (Footprint not found)
pins: 1, 2, 3, 4, 5, 6, 7, 8

## VIPER12A
designator U?, comment SOIC8  value VIPER12A
footprint SOIC8_N (SOIC, 8-Leads, Body 4.9x3.9mm, Pitch 1.27mm, IPC Medium Density)
pins: 1 GND, 2 GND, 3 FB, 4 VDD, 5 DRAIN, 6 DRAIN, 7 DRAIN, 8 DRAIN

## VR
designator RP?, comment value 10K  (hidden comment: VR-3296W)
footprint 3296W
pins: 1 VCC, 2 VCC, 3 VCC

## W25Q32
designator U?, comment W25Q32-SO8
footprint SOIC8 (SOIC, 8-Leads, Body 4.9x3.9mm, Pitch 1.27mm, IPC Medium Density)
pins: 1 ~{CS}, 2 DO, 3 ~{WP}, 4 GND, 5 DI, 6 CLK, 7 ~{HOLD}, 8 VCC

## XC6503D301MR
designator U?, comment SOT23-5  value XC6503D301M
footprint SOT23-5 (SOT23, 5-Leads, Body 3.1x3.0mm (max), Pitch 0.95mm, IPC Medium Density)
pins: 1 VIN, 2 GND, 3 CE, 4 NC, 5 OUT

## XC9216
designator U?, comment SOT23-5  value XC9216A33
footprint SOT23-5 (SOT23, 5-Leads, Body 3.1x3.0mm (max), Pitch 0.95mm, IPC Medium Density)
pins: 1 VIN, 2 GND, 3 EN, 4 VFB, 5 SW

## XH2P
designator J?, comment XH2.54-2
Header, 2-Pin; LatestRevisionDate: 17-Jul-2002; LatestRevisionNote: Re-released for DXP Platform.; Publisher: Altium Limited; Value: XH2.54-2
signal-integrity model Connector
footprint XH2.54-2
pins: 1, 2

## XH3P
designator J?, comment XH2.54-3
Header, 3-Pin; LatestRevisionDate: 17-Jul-2002; LatestRevisionNote: Re-released for DXP Platform.; Publisher: Altium Limited; Value: XH2.54-3
signal-integrity model Connector
footprint XH2.54-3
pins: 1, 2, 3

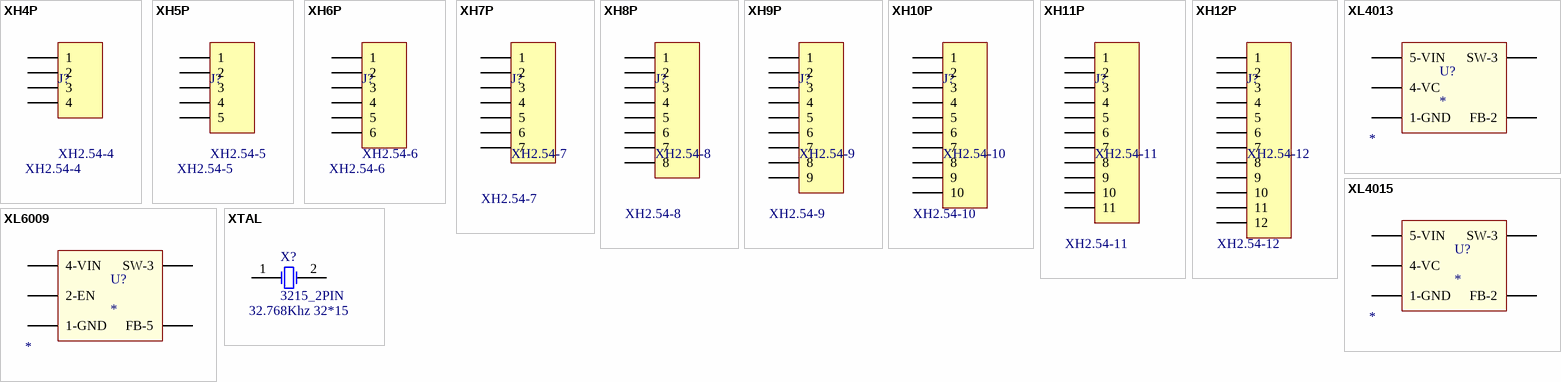
[diagram p3: symbols XH4P to XTAL]

## XH4P
designator J?, comment XH2.54-4
Header, 4-Pin; LatestRevisionDate: 17-Jul-2002; LatestRevisionNote: Re-released for DXP Platform.; Publisher: Altium Limited; Value: XH2.54-4
signal-integrity model Connector
footprint XH2.54-4
pins: 1, 2, 3, 4

## XH5P
designator J?, comment XH2.54-5
Header, 5-Pin; LatestRevisionDate: 17-Jul-2002; LatestRevisionNote: Re-released for DXP Platform.; Publisher: Altium Limited; Value: XH2.54-5
signal-integrity model Connector
footprint XH2.54-5
pins: 1, 2, 3, 4, 5

## XH6P
designator J?, comment XH2.54-6
Header, 6-Pin; LatestRevisionDate: 17-Jul-2002; LatestRevisionNote: Re-released for DXP Platform.; Publisher: Altium Limited; Value: XH2.54-6
signal-integrity model Connector
footprint XH2.54-6
pins: 1, 2, 3, 4, 5, 6

## XH7P
designator J?, comment XH2.54-7
Header, 7-Pin; LatestRevisionDate: 17-Jul-2002; LatestRevisionNote: Re-released for DXP Platform.; Publisher: Altium Limited; Value: XH2.54-7
signal-integrity model Connector
footprint XH2.54-7
pins: 1, 2, 3, 4, 5, 6, 7

## XH8P
designator J?, comment XH2.54-8
Header, 3-Pin; LatestRevisionDate: 17-Jul-2002; LatestRevisionNote: Re-released for DXP Platform.; Publisher: Altium Limited; Value: XH2.54-8
signal-integrity model Connector
footprint XH2.54-8
pins: 1, 2, 3, 4, 5, 6, 7, 8

## XH9P
designator J?, comment XH2.54-9
Header, 9-Pin; LatestRevisionDate: 17-Jul-2002; LatestRevisionNote: Re-released for DXP Platform.; Publisher: Altium Limited; Value: XH2.54-9
signal-integrity model Connector
footprint XH2.54-9
pins: 1, 2, 3, 4, 5, 6, 7, 8, 9

## XH10P
designator J?, comment XH2.54-10
Header, 10-Pin; LatestRevisionDate: 17-Jul-2002; LatestRevisionNote: Re-released for DXP Platform.; Publisher: Altium Limited; Value: XH2.54-10
signal-integrity model Connector
footprint XH2.54-10
pins: 1, 2, 3, 4, 5, 6, 7, 8, 9, 10

## XH11P
designator J?, comment XH2.54-11
Header, 11-Pin; LatestRevisionDate: 17-Jul-2002; LatestRevisionNote: Re-released for DXP Platform.; Publisher: Altium Limited; Value: XH2.54-11
signal-integrity model Connector
footprint XH2.54-11
pins: 1, 2, 3, 4, 5, 6, 7, 8, 9, 10, 11

## XH12P
designator J?, comment XH2.54-12
Header, 12-Pin; LatestRevisionDate: 17-Jul-2002; LatestRevisionNote: Re-released for DXP Platform.; Publisher: Altium Limited; Value: XH2.54-12
signal-integrity model Connector
footprint XH2.54-12
pins: 1, 2, 3, 4, 5, 6, 7, 8, 9, 10, 11, 12

## XL4013
designator U?
Value: *
footprint TO-252-5
pins: 1 1-GND, 2 FB-2, 3 SW-3, 4 4-VC, 5 5-VIN

## XL4015
designator U?
Value: *
footprint TO-263-5
pins: 1 1-GND, 2 FB-2, 3 SW-3, 4 4-VC, 5 5-VIN

## XL6009
designator U?
Value: *
footprint TO-263-5
pins: 1 1-GND, 2 2-EN, 3 SW-3, 4 4-VIN, 5 FB-5

## XTAL
designator X?, comment 3215_2PIN  value 32.768Khz 32*15
Crystal Oscillator; Published: 8-Jun-2000; LatestRevisionDate: 17-Jul-2002; LatestRevisionNote: Re-released for DXP Platform.; PackageReference: R38; Publisher: Altium Limited
footprint CRYSTALS_3215_2PIN (Chip Capacitor, 2-Leads, Body 3.2x1.5mm, IPC Medium Density)
simulation model XTAL (Spice Subcircuit)
pins: 1 OSC1, 2 OSC2